# Altium schematic symbol library TE_Connectivity_726386-2.SCHLIB: 1 symbol
Pins are listed as number, name and electrical type; pins without a type are passive.

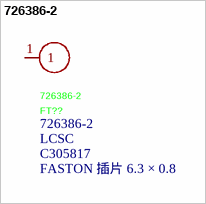
[diagram p0: symbol 726386-2]

## 726386-2
designator FT??  LCSC Part Name: FASTON 插片 6.3 × 0.8  Supplier Part: C305817  Supplier: LCSC
Manufacturer: TE Connectivity(泰科电子); Add into BOM: yes; Symbol: 726386-2; Device: 726386-2; Supplier Footprint: 插件; JLCPCB Part Class: Extended Part; Datasheet: https://item.szlcsc.com/datasheet/726386-2/289903.html; Convert to PCB: yes; Manufacturer Part: 726386-2
footprint CONN-TH_726386-2
3D model CONN-TH_726386-2
pins: 1